# EAGLE library part LT1112 (library pro3E_neu)
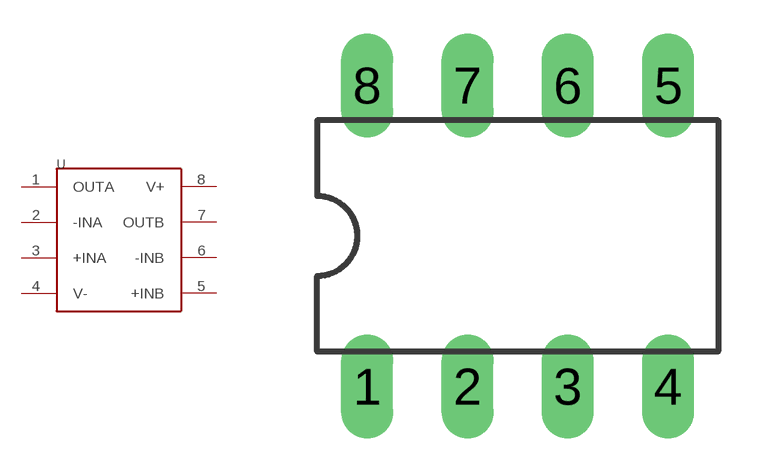
[diagram p1: symbol with the pads of DIL08; footprint DIL08]

Designator prefix U

## LT1112N  [DIL08]
1  OUTA  out
2  -INA  in
3  +INA  in
4  V-
5  +INB
6  -INB  out
7  OUTB
8  V+

## Footprint DIL08 (pad centres in mm)
Dual In Line Package
drill 0.813 long: 1 -3.81,-3.81; 2 -1.27,-3.81; 3 1.27,-3.81; 4 3.81,-3.81; 5 3.81,3.81; 6 1.27,3.81; 7 -1.27,3.81; 8 -3.81,3.81